# Altium footprint library esp12s.PcbLib: 1 footprints
Each footprint in its own frame and in the unit in brackets; x right, y up, seen from the top. Pads: shape width x height; smd on the part's side, far side on the other; paste and mask are expansions set on the pad; w line width, h text height; cw(c..) or ccw(c..) is an arc to the next point about the centre after c.
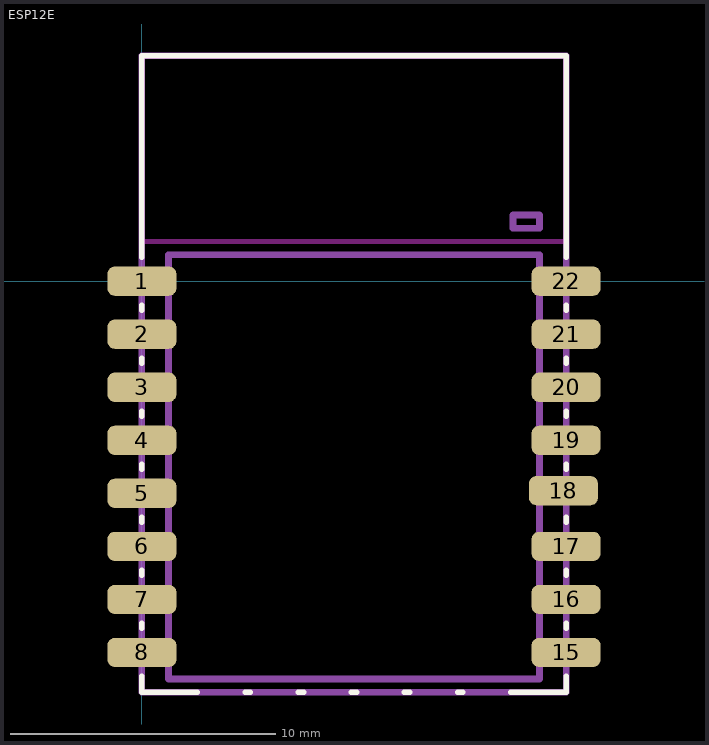
[diagram p0: the footprint, top view; thin cyan lines are the x and y axes]

## ESP12E [mm] "ESP12E"
height 3.5
pads (16):
  rrect50% 2.6x1.1 smd: 1(0,0) 2(0,-2) 3(0,-4) 4(0,-6) 5(0,-8) 6(0,-10) 7(0,-12) 8(0,-14) 15(16,-14) 16(16,-12) 17(16,-10) 18(15.9,-7.9) 19(16,-6) 20(16,-4) 21(16,-2) 22(16,0)
Top Overlay:
  lines w0.2: 0,-14.9 0,-15.5 2.1,-15.5 ; 0,-13.1 0,-12.9 ; 0,-11.1 0,-10.9 ; 0,-9.1 0,-8.9 ; 0,-7.1 0,-6.9 ; 0,-5.1 0,-4.9 ; 0,-3.1 0,-2.9 ; 0,-1.1 0,-0.9 ; 0,0.9 0,8.5 16,8.5 16,0.9 ; 3.9,-15.5 4.1,-15.5 ; 5.9,-15.5 6.1,-15.5 ; 7.9,-15.5 8.1,-15.5 ; 9.9,-15.5 10.1,-15.5 ; 11.9,-15.5 12.1,-15.5 ; 13.9,-15.5 16,-15.5 16,-14.9 ; 16,-13.1 16,-12.9 ; 16,-11.1 16,-10.9 ; 16,-9.1 16,-8.9 ; 16,-7.1 16,-6.9 ; 16,-5.1 16,-4.9 ; 16,-3.1 16,-2.9 ; 16,-1.1 16,-0.9
Keep-Out Layer:
  lines w0.2: 0,1.5 16,1.5 16,8.5 0,8.5 0,1.5
Mechanical 1:
  lines w0.254: 0,-15.5 0,8.5 16,8.5 16,-15.5 0,-15.5 ; 1,-15 15,-15 15,1 1,1 1,-15 ; 14,2 15,2 15,2.5 14,2.5 14,2
3D body: height 1.45, standoff 0, extent 14.001,2.001 14.999,2.499
3D body: height 0.9, standoff 0, extent -0.127,-15.627 16.127,8.627
3D body: height 3.5, standoff 0, extent 1.001,-14.999 14.999,0.999